# Altium footprint library PEI_PCB_1.1.PcbLib: 310 footprints (part 16 of 20)
Each footprint in its own frame and in the unit in brackets; x right, y up, seen from the top. Pads: shape width x height; smd on the part's side, far side on the other; paste and mask are expansions set on the pad; w line width, h text height; cw(c..) or ccw(c..) is an arc to the next point about the centre after c.
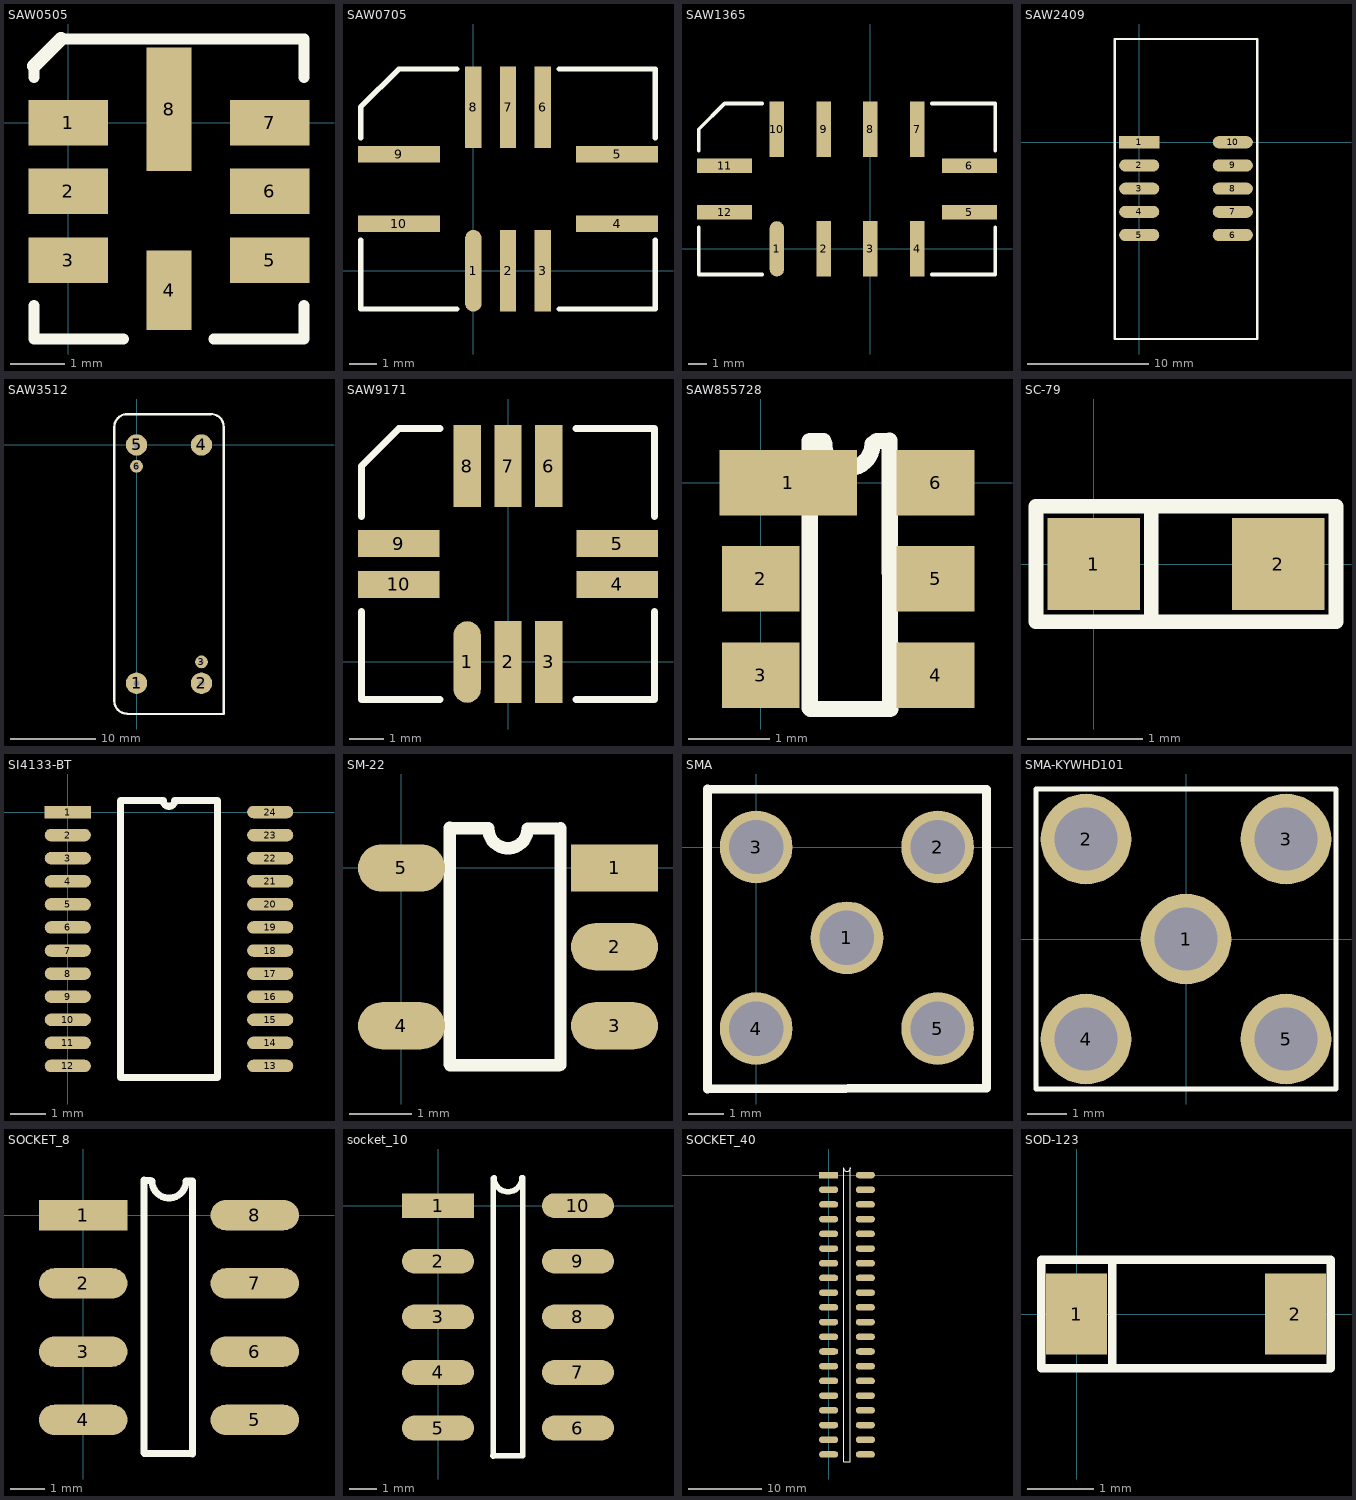
[diagram p15: the footprints below, top view; thin cyan lines are the x and y axes]

## SAW0505 [mm]
pads (8):
  rect 1.47x0.84 smd: 1(0,0) 2(0,-1.27) 3(0,-2.54) 5(3.73,-2.54) 6(3.73,-1.27) 7(3.73,0)
  rect 0.84x1.47 smd: 4(1.865,-3.1)
  rect 0.84x2.28 smd: 8(1.865,0.25)
TopOverlay:
  lines w0.2: -0.635,-3.38 -0.635,-4 1.025,-4 ; -0.635,0.84 -0.635,1.05 ; -0.135,1.55 4.369,1.55 ; 2.692,-4 4.352,-4 ; 4.365,-4 4.365,-3.38 ; 4.365,0.84 4.365,1.55
  lines w0.254: -0.635,1.05 -0.135,1.55

## SAW0705 [mm]
pads (10):
  oval 0.6x3 smd: 1(0,0)
  rect 0.6x3 smd: 2(1.27,0) 3(2.54,0) 6(2.54,6) 7(1.27,6) 8(0,6)
  rect 3x0.6 smd: 4(5.27,1.73) 5(5.27,4.27) 9(-2.73,4.27) 10(-2.73,1.73)
TopOverlay:
  lines w0.2: -4.13,1.13 -4.13,-1.4 -0.6,-1.4 ; -4.13,4.87 -4.13,6 -2.73,7.4 -0.6,7.4 ; 3.14,-1.4 6.67,-1.4 6.67,1.13 ; 3.14,7.4 6.67,7.4 6.67,4.87

## SAW1365 [mm]
pads (12):
  oval 0.8x3 smd: 1(-5.08,0)
  rect 0.8x3 smd: 2(-2.54,0) 3(0,0) 4(2.54,0) 7(2.54,6.5) 8(0,6.5) 9(-2.54,6.5) 10(-5.08,6.5)
  rect 3x0.8 smd: 5(5.38,1.98) 6(5.38,4.52) 11(-7.92,4.52) 12(-7.92,1.98)
TopOverlay:
  lines w0.2: -9.32,1.18 -9.32,-1.4 -5.88,-1.4 ; -9.32,5.32 -9.32,6.5 -7.92,7.9 -5.88,7.9 ; 3.34,-1.4 6.78,-1.4 6.78,1.18 ; 3.34,7.9 6.78,7.9 6.78,5.32

## SAW2409 [mm]
pads (10):
  rect 3.3x1 smd: 1(0,0)
  oval 3.3x1 smd: 2(0,-1.91) 3(0,-3.82) 4(0,-5.73) 5(0,-7.64) 6(7.7,-7.64) 7(7.7,-5.73) 8(7.7,-3.82) 9(7.7,-1.91) 10(7.7,0)
TopOverlay:
  lines w0.2: -2,-16.2 -2,8.5 9.7,8.5 9.7,-16.2 -2,-16.2

## SAW3512 [mm]
pads (6):
  round 2.5 hole 0.7: 1(0,-27.9) 2(7.6,-27.9) 4(7.6,0) 5(0,0)
  round 1.5 hole 0.6: 3(7.6,-25.4) 6(0,-2.5)
TopOverlay:
  lines w0.254: -1.101,-31.454 cw(c-1.143,-29.997) -2.6,-30 -2.6,2.1 cw(c-1.143,2.134) -1.1,3.59 ; -1.1,-31.5 10.2,-31.5 10.2,2.1 ; -1.1,3.6 8.7,3.6 ; 8.7,3.622 cw(c8.712,2.134) 10.2,2.134

## SAW9171 [mm]
pads (10):
  oval 0.8x2.4 smd: 1(-1.2,0)
  rect 0.8x2.4 smd: 2(0,0) 3(1.2,0) 6(1.2,5.76) 7(0,5.76) 8(-1.2,5.76)
  rect 2.4x0.8 smd: 4(3.21,2.28) 5(3.21,3.48) 9(-3.21,3.48) 10(-3.21,2.28)
TopOverlay:
  lines w0.2: -4.31,1.48 -4.31,-1.1 -2,-1.1 ; -4.31,4.28 -4.31,5.76 -3.21,6.86 -2,6.86 ; 2,-1.1 4.31,-1.1 4.31,1.48 ; 2,6.86 4.31,6.86 4.31,4.28

## SAW855728 [mm]
pads (6):
  rect 1.7x0.81 smd: 1(0.34,0)
  rect 0.96x0.81 smd: 2(0,-1.19) 3(0,-2.38) 4(2.16,-2.38) 5(2.16,-1.19) 6(2.16,0)
TopOverlay:
  lines w0.2: 0.605,-2.786 0.605,0.513 ; 0.605,0.516 0.775,0.513 ; 0.612,-2.797 1.582,-2.797 ; 0.784,0.478 ccw(c1.082,0.478) 1.379,0.478 ; 1.433,0.516 1.59,0.516 ; 1.593,0.521 1.6,-2.797

## SC-79 [mm]
pads (2):
  rect 0.8x0.8 smd: 1(0,0) 2(1.6,0)
TopOverlay:
  lines w0.127: 0.5,-0.5 0.5,0.5 ; -0.5,-0.5 2.1,-0.5 2.1,0.5 -0.5,0.5 -0.5,-0.5

## SI4133-BT [mm]
pads (24):
  rect 1.3x0.35 smd: 1(0,0)
  oval 1.3x0.35 smd: 2(0,-0.65) 3(0,-1.3) 4(0,-1.95) 5(0,-2.6) 6(0,-3.25) 7(0,-3.9) 8(0,-4.55) 9(0,-5.2) 10(0,-5.85) 11(0,-6.5) 12(0,-7.15) 13(5.7,-7.15) 14(5.7,-6.5) 15(5.7,-5.85) 16(5.7,-5.2) 17(5.7,-4.55) 18(5.7,-3.9) 19(5.7,-3.25) 20(5.7,-2.6) 21(5.7,-1.95) 22(5.7,-1.3) 23(5.7,-0.65) 24(5.7,0)
TopOverlay:
  lines w0.2: 1.485,-7.475 4.215,-7.475 4.215,0.325 3.012,0.325 cw(c2.85,0.325) 2.687,0.325 1.485,0.325 1.485,-7.475

## SM-22 [mm]
pads (5):
  rect 1.4x0.76 smd: 1(3.43,0)
  oval 1.4x0.76 smd: 2(3.43,-1.27) 3(3.43,-2.54) 4(0,-2.54) 5(0,0)
TopOverlay:
  lines w0.2: 0.777,-3.16 0.777,0.65 ; 0.782,-3.175 2.535,-3.175 ; 0.79,0.638 1.394,0.638 ; 1.398,0.635 ccw(c1.715,0.635) 2.033,0.635 2.555,0.635 ; 2.56,-3.172 2.56,0.638

## SMA [mil]
pads (5):
  round 80 hole 60: 1(100,-100) 2(200,0) 3(0,0) 4(0,-200) 5(200,-200)
TopOverlay:
  lines w10: -53.8,-266.6 253.9,-265.4 253.9,63.2 -53.8,63.9 -53.8,-266.6

## SMA-KYWHD101 [mm]
pads (5):
  round 2.3 hole 1.6: 1(0,0) 2(-2.54,2.54) 3(2.54,2.54) 4(-2.54,-2.54) 5(2.54,-2.54)
TopOverlay:
  lines w0.127: -3.81,-3.81 3.81,-3.81 3.81,3.81 -3.81,3.81 -3.81,-3.81

## SOCKET_8 [mm]
pads (8):
  rect 2.59x0.89 smd: 1(0,0)
  oval 2.59x0.89 smd: 2(0,-2) 3(0,-4) 4(0,-6) 5(5.03,-6) 6(5.03,-4) 7(5.03,-2) 8(5.03,0)
TopOverlay:
  lines w0.2: 1.781,-6.971 1.781,1.029 ; 1.788,-6.988 3.183,-6.988 ; 1.851,1.016 1.966,1.016 ; 2.015,1 ccw(c2.515,1) 3.015,1 ; 3.03,1.008 3.145,1.008 ; 3.2,-6.999 3.2,1.001

## socket_10 [mm]
pads (10):
  rect 2.59x0.89 smd: 1(0,0)
  oval 2.59x0.89 smd: 2(0,-2) 3(0,-4) 4(0,-6) 5(0,-8) 6(5.03,-8) 7(5.03,-6) 8(5.03,-4) 9(5.03,-2) 10(5.03,0)
TopOverlay:
  lines w0.2: 1.966,-9.004 3.043,-8.997 ; 1.979,-9.017 1.979,0.983 ; 2.015,1 ccw(c2.515,1) 3.015,1 ; 3.053,-8.999 3.053,1.001

## SOCKET_40 [mm]
pads (40):
  rect 2.6x0.89 smd: 1(0,0)
  oval 2.6x0.89 smd: 2(0,-2) 3(0,-4) 4(0,-6) 5(0,-8) 6(0,-10) 7(0,-12) 8(0,-14) 9(0,-16) 10(0,-18) 11(0,-20) 12(0,-22) 13(0,-24) 14(0,-26) 15(0,-28) 16(0,-30) 17(0,-32) 18(0,-34) 19(0,-36) 20(0,-38) 21(5,-38) 22(5,-36) 23(5,-34) 24(5,-32) 25(5,-30) 26(5,-28) 27(5,-26) 28(5,-24) 29(5,-22) 30(5,-20) 31(5,-18) 32(5,-16) 33(5,-14) 34(5,-12) 35(5,-10) 36(5,-8) 37(5,-6) 38(5,-4) 39(5,-2) 40(5,0)
TopOverlay:
  lines w0.127: 2,1 ccw(c2.5,1) 3,1 2.938,1 2.938,-39 2.062,-39 2.062,1 2,1

## SOD-123 [mil]
pads (2):
  rect 36x48 smd: 1(0,0) 2(129,0)
TopOverlay:
  lines w5: 21,-32 21,32 ; -21,-32 150,-32 150,32 -21,32 -21,-32